# Altium footprint library PCB - CAPACITOR - TANTALUM - KEMET T510 2924_7360 3.8MM.PCBLIB: 1 footprints
Each footprint in its own frame and in the unit in brackets; x right, y up, seen from the top. Pads: shape width x height; smd on the part's side, far side on the other; paste and mask are expansions set on the pad; w line width, h text height; cw(c..) or ccw(c..) is an arc to the next point about the centre after c.
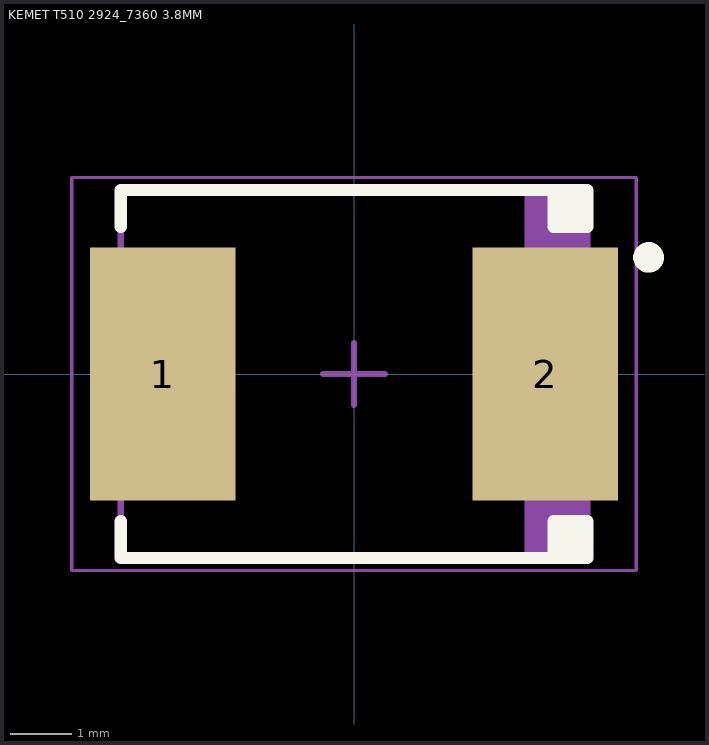
[diagram p0: the footprint, top view; thin cyan lines are the x and y axes]

## KEMET T510 2924_7360 3.8MM [mm] "Molded Capacitor, 2-Leads, Body 7.30x6.00mm"
height 3.8
pads (2):
  rect 2.37x4.13 smd: 1(-3.12,0) 2(3.12,0)
Top Overlay:
  circle w0.25: c4.8,1.9 r0.125
  region: 3.8,3 3.25,3 3.25,2.4 3.8,2.4
  region: 3.8,-2.4 3.25,-2.4 3.25,-3 3.8,-3
  lines w0.2: -3.8,-2.4 -3.8,-3 3.8,-3 3.8,-2.4 3.25,-2.4 3.25,-3 ; -3.8,2.4 -3.8,3 3.8,3 3.8,2.4 3.25,2.4 3.25,3
Mechanical 13:
  region: 3.8,3 2.778,3 2.778,-3 3.8,-3
  lines w0.1: -3.8,-3 3.8,-3 3.8,3 -3.8,3 -3.8,-3
Mechanical 15:
  lines w0.05: -4.6,-3.2 4.6,-3.2 4.6,3.2 -4.6,3.2 -4.6,-3.2
  lines w0.1: -0.5,0 0.5,0 ; 0,-0.5 0,0.5
3D body "KEMET - T510 2924_7360 E.step": height 3.8, standoff 0, extent -3.8,-3 3.8,3